# Altium footprint library AMPHENOL_GSB412137CHR.PcbLib: 1 footprints
Each footprint in its own frame and in the unit in brackets; x right, y up, seen from the top. Pads: shape width x height; smd on the part's side, far side on the other; paste and mask are expansions set on the pad; w line width, h text height; cw(c..) or ccw(c..) is an arc to the next point about the centre after c.
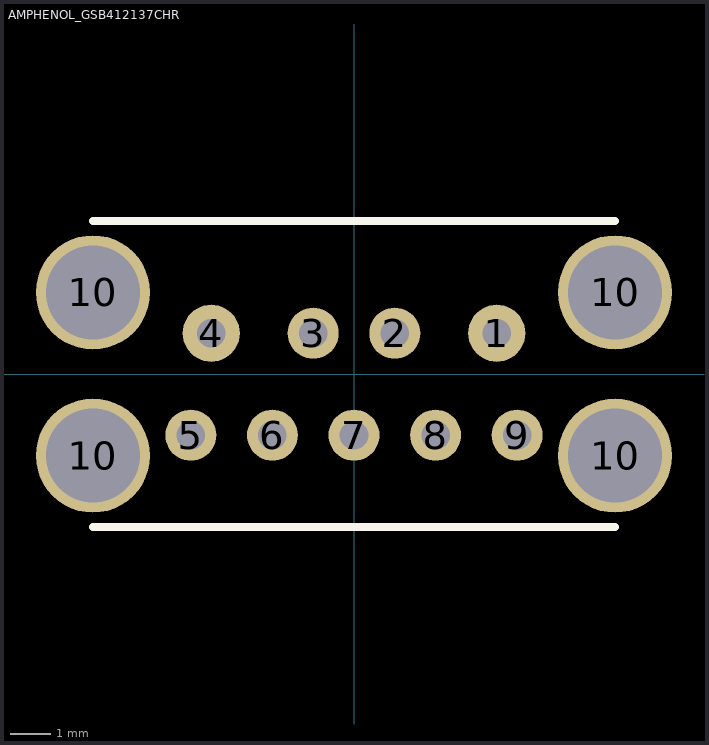
[diagram p0: the footprint, top view; thin cyan lines are the x and y axes]

## AMPHENOL_GSB412137CHR [mm] "Amphenol USB 3.1 Type A connector, Vertical"
pads (13):
  round 1.4 hole 0.7 unplated: 1(3.5,1) 4(-3.5,1)
  round 1.25 hole 0.7 unplated: 2(1,1) 3(-1,1) 5(-4,-1.5) 6(-2,-1.5) 7(0,-1.5) 8(2,-1.5) 9(4,-1.5)
  round 2.8 hole 2.3 unplated: 10(-6.4,-2) 10(-6.4,2) 10(6.4,-2) 10(6.4,2)
Top Overlay:
  lines w0.2: -6.4,-3.75 6.4,-3.75 ; -6.4,3.75 6.4,3.75
3D body "gsb4121xxchr.stp": height 14.43, standoff -2.87, extent -7.4,-3.7 7.4,3.7